# Altium schematic symbol library Transformers.SchLib: 1 symbol
Pins are listed as number, name and electrical type; pins without a type are passive.

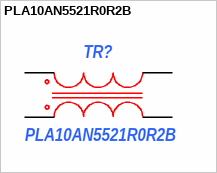
[diagram p0: symbol PLA10AN5521R0R2B]

## PLA10AN5521R0R2B
designator TR?
Линейный фильтр; ComponentLink1Description: *; ComponentLink1URL: *; ComponentLink2Description: *; ComponentLink2URL: *; ManufacturerPartNumber: PLA10AN5521R0R2B; Power/Voltage: *; Rem: *; TKE: *; Tolerance: *; TU/GOST: *; Value: *; Корпус: *; Примечание: *; Manufacturer: *; Author: *; Type: *
footprint PLA10AN5521R0R2B
pins: 1, 2, 3, 4